# Altium footprint library MOCDIP6.PcbLib: 2 footprints
Each footprint in its own frame and in the unit in brackets; x right, y up, seen from the top. Pads: shape width x height; smd on the part's side, far side on the other; paste and mask are expansions set on the pad; w line width, h text height; cw(c..) or ccw(c..) is an arc to the next point about the centre after c.
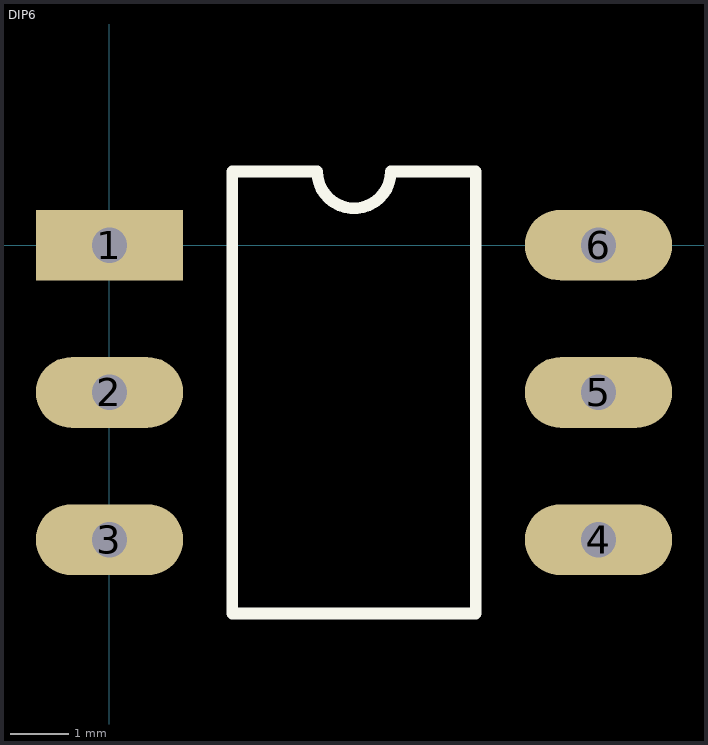
[diagram p0: the footprints below, top view; thin cyan lines are the x and y axes]

## DIP6 [mm]
pads (6):
  rect 2.5x1.2 hole 0.6: 1(0,0)
  oval 2.5x1.2 hole 0.6: 2(0,-2.5) 3(0,-5) 4(8.3,-5) 5(8.3,-2.5) 6(8.3,0)
Top Overlay:
  lines w0.2: 2.085,-6.25 2.085,1.25 3.525,1.25 ccw(c4.15,1.25) 4.775,1.25 6.215,1.25 6.215,-6.25 2.085,-6.25

## PCBComponent_1 [mm]